# Altium footprint library B10B-PUDSS-1.PcbLib: 1 footprints
Each footprint in its own frame and in the unit in brackets; x right, y up, seen from the top. Pads: shape width x height; smd on the part's side, far side on the other; paste and mask are expansions set on the pad; w line width, h text height; cw(c..) or ccw(c..) is an arc to the next point about the centre after c.
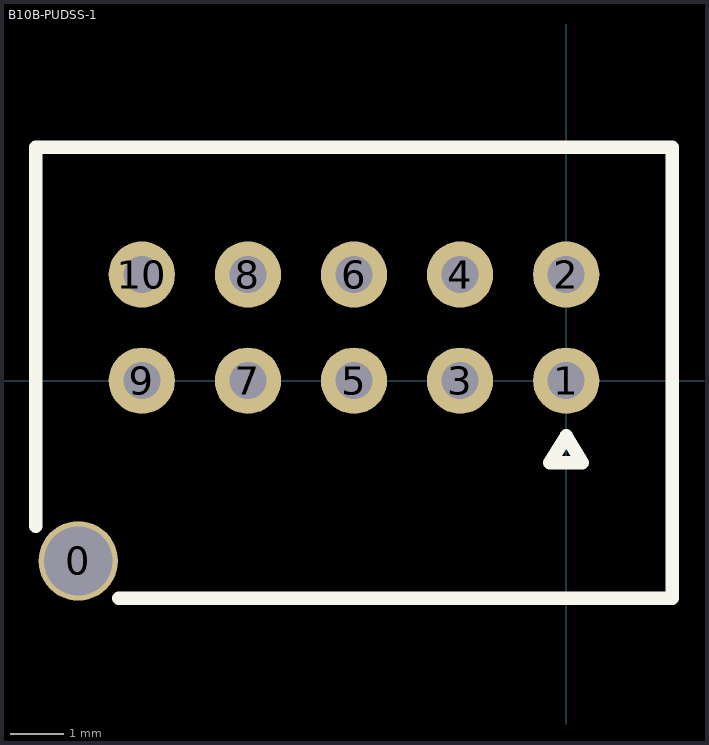
[diagram p0: the footprint, top view; thin cyan lines are the x and y axes]

## B10B-PUDSS-1 [mm] "10p latched male pin crimp header w/ latch holder"
pads (11):
  round 1.5 hole 1.3: 0(-9.2,-3.4)
  round 1.25 hole 0.7: 1(0,0) 2(0,2) 3(-2,0) 4(-2,2) 5(-4,0) 6(-4,2) 7(-6,0) 8(-6,2) 9(-8,0) 10(-8,2)
Top Overlay:
  lines w0.254: -10,-2.743 -10,4.4 2,4.4 2,-4.1 -8.433,-4.1 ; -0.305,-1.549 0,-1.041 0.305,-1.549 0.254,-1.549 -0.305,-1.549
3D body: height 9.6, standoff -3.1, extent -9.982,-4.039 2.018,4.261